# Altium schematic symbol library SW-DIP-SPST-1POS.SchLib: 1 symbol
Pins are listed as number, name and electrical type; pins without a type are passive.

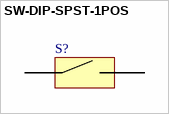
[diagram p0: symbol SW-DIP-SPST-1POS]

## SW-DIP-SPST-1POS
designator S?  (value not drawn)
pins: 1, 2